# Altium footprint library X322525MOB4SI.PcbLib: 1 footprints
Each footprint in its own frame and in the unit in brackets; x right, y up, seen from the top. Pads: shape width x height; smd on the part's side, far side on the other; paste and mask are expansions set on the pad; w line width, h text height; cw(c..) or ccw(c..) is an arc to the next point about the centre after c.
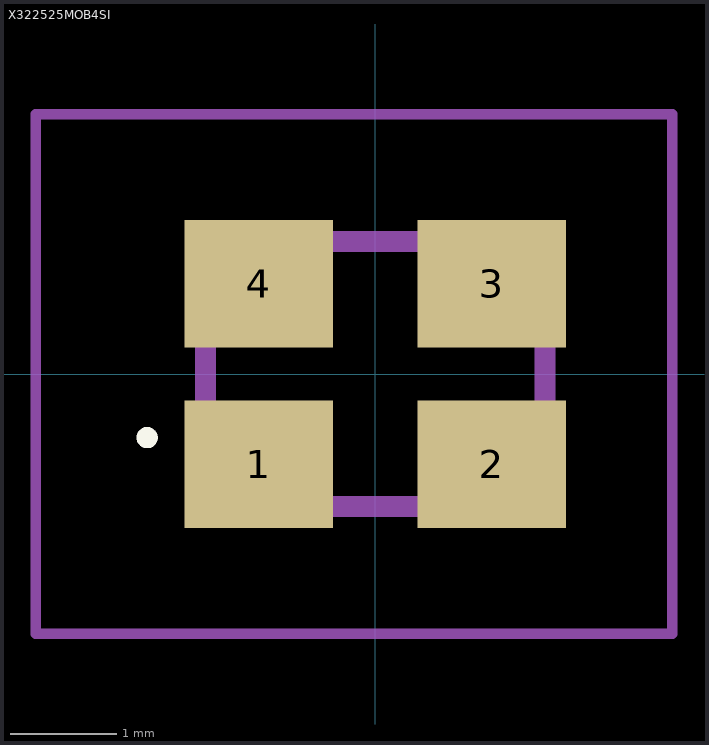
[diagram p0: the footprint, top view; thin cyan lines are the x and y axes]

## X322525MOB4SI [mm]
pads (4):
  rect 1.4x1.2 smd: 1(-1.1,-0.85) 2(1.1,-0.85) 3(1.1,0.85) 4(-1.1,0.85)
Top Overlay:
  lines w0.1: -2.2,-0.6 cw(c-2.15,-0.6) -2.1,-0.6 cw(c-2.15,-0.6) -2.2,-0.6
Mechanical 15:
  lines w0.2: -1.6,-1.25 -1.6,1.25 1.6,1.25 1.6,-1.25 -1.6,-1.25
Mechanical 20:
  lines w0.1: -3.2,-2.45 -3.2,2.45 2.8,2.45 2.8,-2.45 -3.2,-2.45
3D body "X322525MOB4SI.stp": height 0.9, standoff 0, extent -1.68,-1.33 1.68,1.33